# Altium integrated library MergenElektronik_Capacitors_AluminumElectrolytics_THTs.IntLib: 2 symbols
Pins are listed as number, name and electrical type; pins without a type are passive.

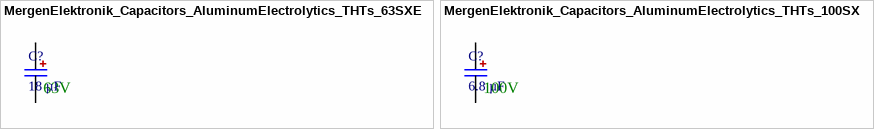
[diagram p0: symbols MergenElektronik_Capacitors_AluminumElectrolytics_THTs_63SXE18M to MergenElektronik_Capacitors_AluminumElectrolytics_THTs_100SXE6R8M]

## MergenElektronik_Capacitors_AluminumElectrolytics_THTs_63SXE18M
designator C?, comment 18 µF  Voltage Rated: 63V
Mergen Elektronik- Capacitors - Aluminum Electrolytics - THTs - 63SXE18M; Manufacturer: Panasonic Electronic Components; Manufacturer Number: 100SXE6R8M; Model: Aluminum Electrolytic Capacitors; Tolerance: ±20%; Value: 18 µF; Temperature: -55°C up to +125°C; Digi-Key Number: P122614-ND; Package: 8x7mm; Farnell Number: 2920530; Mouser Number: 667-63SXE18M; Mounting Type: Through Hole; Supplier 1: Digikey; Supplier 2: Mouser; Supplier Part Number 1: P122614-ND; Supplier Part Number 2: 667-63SXE18M; Özdisan Number: 63SXE18M
footprint MergenElektronik_Capacitors_AluminumElectrolytics_THTs_8x7MM (8MM Diameter - 7MM Height)
pins: ANOT 2, KATOT 1

## MergenElektronik_Capacitors_AluminumElectrolytics_THTs_100SXE6R8M
designator C?, comment 6.8 µF  Voltage Rated: 100V
Mergen Elektronik- Capacitors - Aluminum Electrolytics - THTs - 100SXE6R8M; Manufacturer: Panasonic Electronic Components; Model: Aluminum Electrolytic Capacitors; Tolerance: ±20%; Value: 6.8 µF; Temperature: -55°C up to +125°C; Digi-Key Number: P122447-ND; Manufacturer Number: 100SXE6R8M; Package: 8x7mm; Farnell Number: 2766977; Mouser Number: 667-100SXE6R8M; Mounting Type: Through Hole; Supplier 1: Digikey; Supplier 2: Mouser; Supplier Part Number 1: P122447-ND; Supplier Part Number 2: 667-100SXE6R8M
footprint MergenElektronik_Capacitors_AluminumElectrolytics_THTs_8x7MM (8MM Diameter - 7MM Height)
pins: ANOT 2, KATOT 1